# EAGLE library part LTC2941-1 (library signpost)
1A I2C Battery Gas Gauge with Internal Sense Resistor
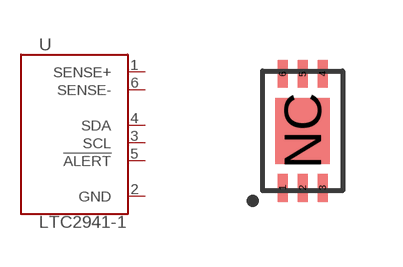
[diagram p12: symbol with the pads of DFN-6-2MMX3MM; footprint DFN-6-2MMX3MM]

Designator prefix U

## LTC2941-1 (DIGIKEY: LTC2941CDCB-1#TRMPBFCT-ND; NEWARK: 84R6664)  [DFN-6-2MMX3MM]
1  SENSE+  oc
2  GND  oc
3  SCL  oc
4  SDA  oc
5  !ALERT  oc
6  SENSE-  oc

## Footprint DFN-6-2MMX3MM (pad centres in mm)
smd 0.25 x 0.7: 1 -0.5,-1.425; 2 0,-1.425; 3 0.5,-1.425; 4 0.5,1.425; 5 0,1.425; 6 -0.5,1.425
smd 1.35 x 1.65: NC 0,0